# EAGLE library part XCV200E_PQ240 (library xilinx-xcv)
xcv200e_pq240 edit this description Auto generated by make-symbol-device-package-bsdl.ulp Rev. 26 Source: xcv200e_pq240.bsd
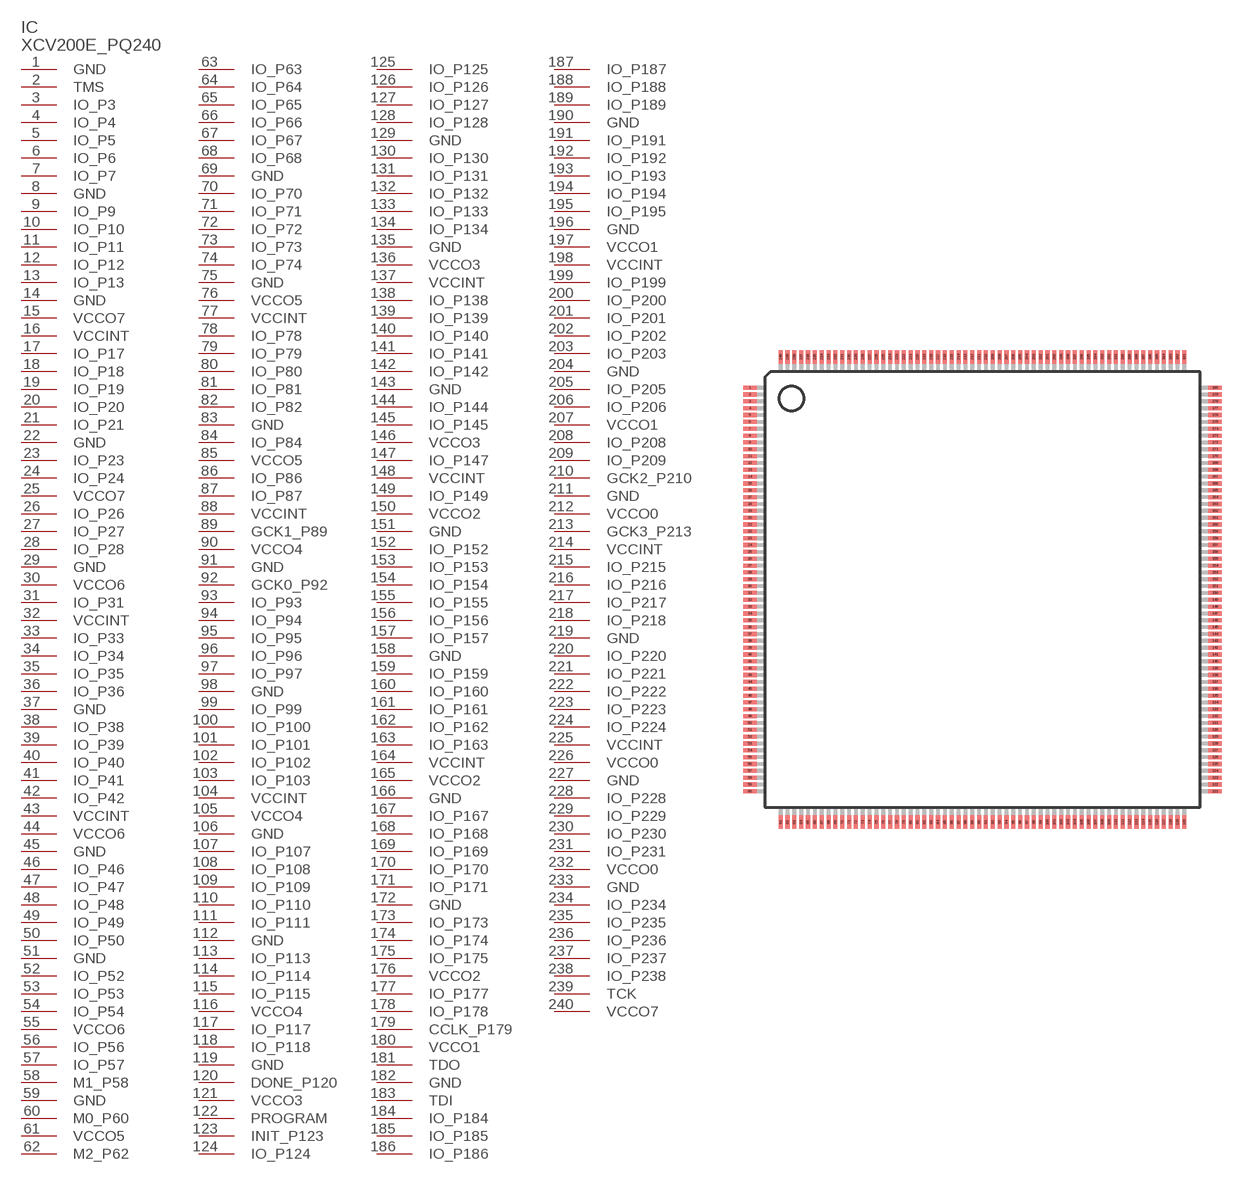
[diagram p59: symbol with the pads of PQ240; footprint PQ240]

Designator prefix IC

## XCV200E_PQ240  [PQ240]
1  GND  pwr
2  TMS  in
3  IO_P3
4  IO_P4
5  IO_P5
6  IO_P6
7  IO_P7
8  GND  pwr
9  IO_P9
10  IO_P10
11  IO_P11
12  IO_P12
13  IO_P13
14  GND  pwr
15  VCCO7  pwr
16  VCCINT  pwr
17  IO_P17
18  IO_P18
19  IO_P19
20  IO_P20
21  IO_P21
22  GND  pwr
23  IO_P23
24  IO_P24
25  VCCO7  pwr
26  IO_P26
27  IO_P27
28  IO_P28
29  GND  pwr
30  VCCO6  pwr
31  IO_P31
32  VCCINT  pwr
33  IO_P33
34  IO_P34
35  IO_P35
36  IO_P36
37  GND  pwr
38  IO_P38
39  IO_P39
40  IO_P40
41  IO_P41
42  IO_P42
43  VCCINT  pwr
44  VCCO6  pwr
45  GND  pwr
46  IO_P46
47  IO_P47
48  IO_P48
49  IO_P49
50  IO_P50
51  GND  pwr
52  IO_P52
53  IO_P53
54  IO_P54
55  VCCO6  pwr
56  IO_P56
57  IO_P57
58  M1_P58  in
59  GND  pwr
60  M0_P60  in
61  VCCO5  pwr
62  M2_P62  in
63  IO_P63
64  IO_P64
65  IO_P65
66  IO_P66
67  IO_P67
68  IO_P68
69  GND  pwr
70  IO_P70
71  IO_P71
72  IO_P72
73  IO_P73
74  IO_P74
75  GND  pwr
76  VCCO5  pwr
77  VCCINT  pwr
78  IO_P78
79  IO_P79
80  IO_P80
81  IO_P81
82  IO_P82
83  GND  pwr
84  IO_P84
85  VCCO5  pwr
86  IO_P86
87  IO_P87
88  VCCINT  pwr
89  GCK1_P89  in
90  VCCO4  pwr
91  GND  pwr
92  GCK0_P92  in
93  IO_P93
94  IO_P94
95  IO_P95
96  IO_P96
97  IO_P97
98  GND  pwr
99  IO_P99
100  IO_P100
101  IO_P101
102  IO_P102
103  IO_P103
104  VCCINT  pwr
105  VCCO4  pwr
106  GND  pwr
107  IO_P107
108  IO_P108
109  IO_P109
110  IO_P110
111  IO_P111
112  GND  pwr
113  IO_P113
114  IO_P114
115  IO_P115
116  VCCO4  pwr
117  IO_P117
118  IO_P118
119  GND  pwr
120  DONE_P120
121  VCCO3  pwr
122  PROGRAM  in
123  INIT_P123
124  IO_P124
125  IO_P125
126  IO_P126
127  IO_P127
128  IO_P128
129  GND  pwr
130  IO_P130
131  IO_P131
132  IO_P132
133  IO_P133
134  IO_P134
135  GND  pwr
136  VCCO3  pwr
137  VCCINT  pwr
138  IO_P138
139  IO_P139
140  IO_P140
141  IO_P141
142  IO_P142
143  GND  pwr
144  IO_P144
145  IO_P145
146  VCCO3  pwr
147  IO_P147
148  VCCINT  pwr
149  IO_P149
150  VCCO2  pwr
151  GND  pwr
152  IO_P152
153  IO_P153
154  IO_P154
155  IO_P155
156  IO_P156
157  IO_P157
158  GND  pwr
159  IO_P159
160  IO_P160
161  IO_P161
162  IO_P162
163  IO_P163
164  VCCINT  pwr
165  VCCO2  pwr
166  GND  pwr
167  IO_P167
168  IO_P168
169  IO_P169
170  IO_P170
171  IO_P171
172  GND  pwr
173  IO_P173
174  IO_P174
175  IO_P175
176  VCCO2  pwr
177  IO_P177
178  IO_P178
179  CCLK_P179
180  VCCO1  pwr
181  TDO  out
182  GND  pwr
183  TDI  in
184  IO_P184
185  IO_P185
186  IO_P186
187  IO_P187
188  IO_P188
189  IO_P189
190  GND  pwr
191  IO_P191
192  IO_P192
193  IO_P193
194  IO_P194
195  IO_P195
196  GND  pwr
197  VCCO1  pwr
198  VCCINT  pwr
199  IO_P199
200  IO_P200
201  IO_P201
202  IO_P202
203  IO_P203
204  GND  pwr
205  IO_P205
206  IO_P206
207  VCCO1  pwr
208  IO_P208
209  IO_P209
210  GCK2_P210  in
211  GND  pwr
212  VCCO0  pwr
213  GCK3_P213  in
214  VCCINT  pwr
215  IO_P215
216  IO_P216
217  IO_P217
218  IO_P218
219  GND  pwr
220  IO_P220
221  IO_P221
222  IO_P222
223  IO_P223
224  IO_P224
225  VCCINT  pwr
226  VCCO0  pwr
227  GND  pwr
228  IO_P228
229  IO_P229
230  IO_P230
231  IO_P231
232  VCCO0  pwr
233  GND  pwr
234  IO_P234
235  IO_P235
236  IO_P236
237  IO_P237
238  IO_P238
239  TCK  in
240  VCCO7  pwr

## Footprint PQ240 (pad centres in mm)
PQ240 Auto generated by make-symbol-device-package-bsdl.ulp Rev. 26
smd 1 x 0.3: 1 -17,14.75; 2 -17,14.25; 3 -17,13.75; 4 -17,13.25; 5 -17,12.75; 6 -17,12.25; 7 -17,11.75; 8 -17,11.25; 9 -17,10.75; 10 -17,10.25; 11 -17,9.75; 12 -17,9.25; 13 -17,8.75; 14 -17,8.25; 15 -17,7.75; 16 -17,7.25; 17 -17,6.75; 18 -17,6.25; 19 -17,5.75; 20 -17,5.25; 21 -17,4.75; 22 -17,4.25; 23 -17,3.75; 24 -17,3.25; 25 -17,2.75; 26 -17,2.25; 27 -17,1.75; 28 -17,1.25; 29 -17,0.75; 30 -17,0.25; 31 -17,-0.25; 32 -17,-0.75; 33 -17,-1.25; 34 -17,-1.75; 35 -17,-2.25; 36 -17,-2.75; 37 -17,-3.25; 38 -17,-3.75; 39 -17,-4.25; 40 -17,-4.75; 41 -17,-5.25; 42 -17,-5.75; 43 -17,-6.25; 44 -17,-6.75; 45 -17,-7.25; 46 -17,-7.75; 47 -17,-8.25; 48 -17,-8.75; 49 -17,-9.25; 50 -17,-9.75; 51 -17,-10.25; 52 -17,-10.75; 53 -17,-11.25; 54 -17,-11.75; 55 -17,-12.25; 56 -17,-12.75; 57 -17,-13.25; 58 -17,-13.75; 59 -17,-14.25; 60 -17,-14.75; 121 17,-14.75; 122 17,-14.25; 123 17,-13.75; 124 17,-13.25; 125 17,-12.75; 126 17,-12.25; 127 17,-11.75; 128 17,-11.25; 129 17,-10.75; 130 17,-10.25; 131 17,-9.75; 132 17,-9.25; 133 17,-8.75; 134 17,-8.25; 135 17,-7.75; 136 17,-7.25; 137 17,-6.75; 138 17,-6.25; 139 17,-5.75; 140 17,-5.25; 141 17,-4.75; 142 17,-4.25; 143 17,-3.75; 144 17,-3.25; 145 17,-2.75; 146 17,-2.25; 147 17,-1.75; 148 17,-1.25; 149 17,-0.75; 150 17,-0.25; 151 17,0.25; 152 17,0.75; 153 17,1.25; 154 17,1.75; 155 17,2.25; 156 17,2.75; 157 17,3.25; 158 17,3.75; 159 17,4.25; 160 17,4.75; 161 17,5.25; 162 17,5.75; 163 17,6.25; 164 17,6.75; 165 17,7.25; 166 17,7.75; 167 17,8.25; 168 17,8.75; 169 17,9.25; 170 17,9.75; 171 17,10.25; 172 17,10.75; 173 17,11.25; 174 17,11.75; 175 17,12.25; 176 17,12.75; 177 17,13.25; 178 17,13.75; 179 17,14.25; 180 17,14.75
smd 0.3 x 1: 61 -14.75,-17; 62 -14.25,-17; 63 -13.75,-17; 64 -13.25,-17; 65 -12.75,-17; 66 -12.25,-17; 67 -11.75,-17; 68 -11.25,-17; 69 -10.75,-17; 70 -10.25,-17; 71 -9.75,-17; 72 -9.25,-17; 73 -8.75,-17; 74 -8.25,-17; 75 -7.75,-17; 76 -7.25,-17; 77 -6.75,-17; 78 -6.25,-17; 79 -5.75,-17; 80 -5.25,-17; 81 -4.75,-17; 82 -4.25,-17; 83 -3.75,-17; 84 -3.25,-17; 85 -2.75,-17; 86 -2.25,-17; 87 -1.75,-17; 88 -1.25,-17; 89 -0.75,-17; 90 -0.25,-17; 91 0.25,-17; 92 0.75,-17; 93 1.25,-17; 94 1.75,-17; 95 2.25,-17; 96 2.75,-17; 97 3.25,-17; 98 3.75,-17; 99 4.25,-17; 100 4.75,-17; 101 5.25,-17; 102 5.75,-17; 103 6.25,-17; 104 6.75,-17; 105 7.25,-17; 106 7.75,-17; 107 8.25,-17; 108 8.75,-17; 109 9.25,-17; 110 9.75,-17; 111 10.25,-17; 112 10.75,-17; 113 11.25,-17; 114 11.75,-17; 115 12.25,-17; 116 12.75,-17; 117 13.25,-17; 118 13.75,-17; 119 14.25,-17; 120 14.75,-17; 181 14.75,17; 182 14.25,17; 183 13.75,17; 184 13.25,17; 185 12.75,17; 186 12.25,17; 187 11.75,17; 188 11.25,17; 189 10.75,17; 190 10.25,17; 191 9.75,17; 192 9.25,17; 193 8.75,17; 194 8.25,17; 195 7.75,17; 196 7.25,17; 197 6.75,17; 198 6.25,17; 199 5.75,17; 200 5.25,17; 201 4.75,17; 202 4.25,17; 203 3.75,17; 204 3.25,17; 205 2.75,17; 206 2.25,17; 207 1.75,17; 208 1.25,17; 209 0.75,17; 210 0.25,17; 211 -0.25,17; 212 -0.75,17; 213 -1.25,17; 214 -1.75,17; 215 -2.25,17; 216 -2.75,17; 217 -3.25,17; 218 -3.75,17; 219 -4.25,17; 220 -4.75,17; 221 -5.25,17; 222 -5.75,17; 223 -6.25,17; 224 -6.75,17; 225 -7.25,17; 226 -7.75,17; 227 -8.25,17; 228 -8.75,17; 229 -9.25,17; 230 -9.75,17; 231 -10.25,17; 232 -10.75,17; 233 -11.25,17; 234 -11.75,17; 235 -12.25,17; 236 -12.75,17; 237 -13.25,17; 238 -13.75,17; 239 -14.25,17; 240 -14.75,17